# Altium footprint library TerreneitorLib.PcbLib: 8 footprints
Each footprint in its own frame and in the unit in brackets; x right, y up, seen from the top. Pads: shape width x height; smd on the part's side, far side on the other; paste and mask are expansions set on the pad; w line width, h text height; cw(c..) or ccw(c..) is an arc to the next point about the centre after c.
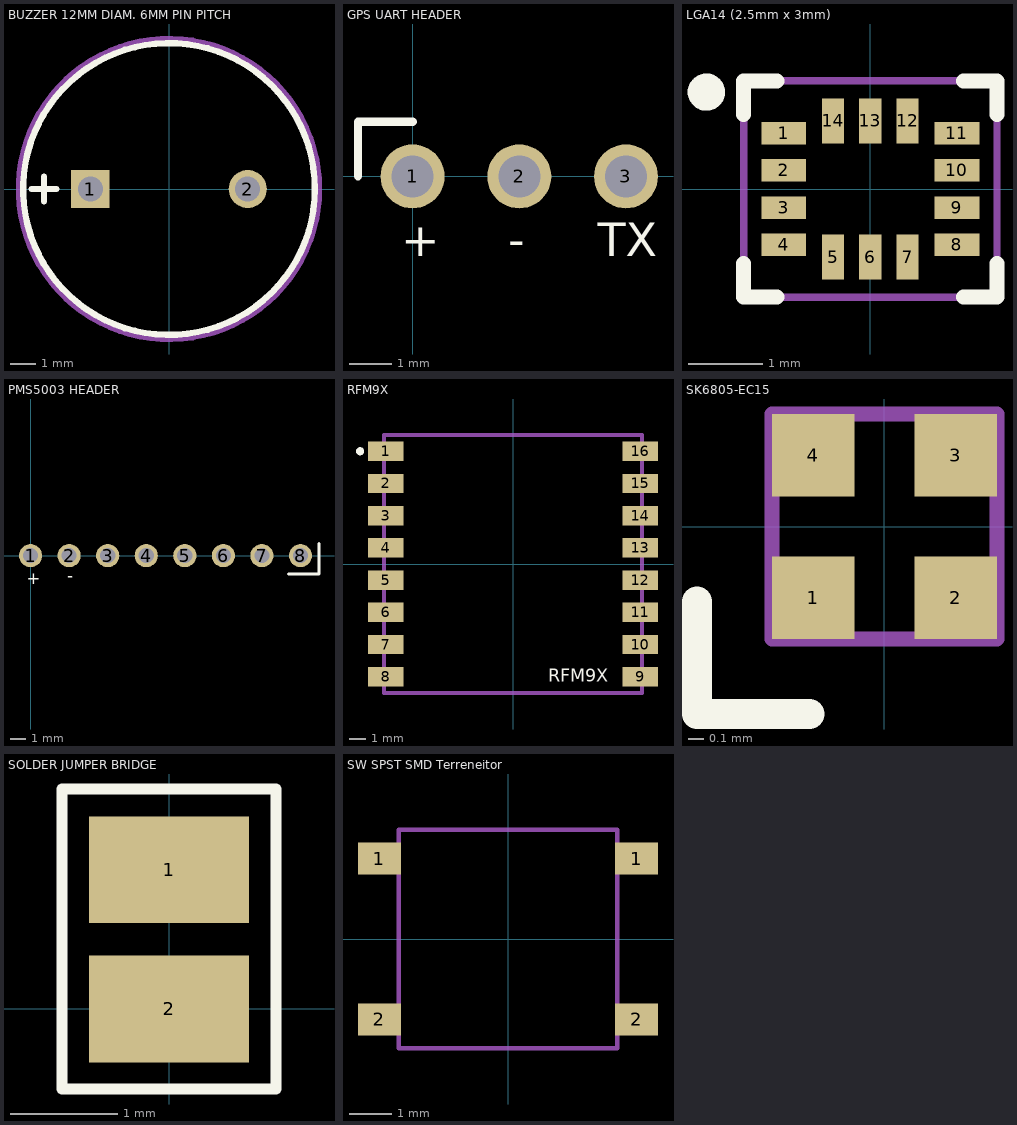
[diagram p0: the footprints below, top view; thin cyan lines are the x and y axes]

## BUZZER 12MM DIAM. 6MM PIN PITCH [mm]
pads (2):
  rect 1.524x1.524 hole 1: 1(-3.15,0)
  round 1.524 hole 1: 2(3.15,0)
Top Overlay:
  circle w0.254: c0,0 r5.836
  lines w0.254: -5.5,0 -4.5,0 ; -5,-0.5 -5,0.5
Mechanical 1:
  circle w0.254: c0,0 r6
3D body "12085_buzzer.step": height 8.2, standoff -3, extent -5.95,-6 6.05,6

## GPS UART HEADER [mil]
pads (3):
  round 60 hole 39.37: 1(0,0) 2(100,0) 3(200,0)
Top Overlay:
  lines w7.87: -51.18,0 -51.18,51.18 0,51.18
  text "TX" at 173.76,-74.8 h31.5
  text "-" at 89.5,-74.8 h31.5
  text "+" at -10.5,-74.8 h31.5
Mechanical 1:
  text "'.Designator'" at -144.28,62.34 h39.37
3D body "PinHeader_1x03_P2.54mm_Vertical.step": height 336.22, standoff -118.11, extent -50,-50 250,50

## LGA14 (2.5mm x 3mm) [mm]
pads (14):
  rect 0.6x0.3 smd mask+0.051: 1(-1.162,0.75) 2(-1.162,0.25) 3(-1.162,-0.25) 4(-1.162,-0.75) 8(1.162,-0.75) 9(1.162,-0.25) 10(1.162,0.25) 11(1.162,0.75)
  rect 0.3x0.6 smd mask+0.051: 5(-0.5,-0.913) 6(0,-0.913) 7(0.5,-0.913) 12(0.5,0.913) 13(0,0.913) 14(-0.5,0.913)
Top Overlay:
  circle w0.25: c-2.2,1.3 r0.125
  lines w0.2: -1.7,-1 -1.7,-1.45 -1.25,-1.45 ; -1.7,1 -1.7,1.45 -1.25,1.45 ; 1.25,-1.45 1.7,-1.45 1.7,-1 ; 1.25,1.45 1.7,1.45 1.7,1
Mechanical 1:
  lines w0.1: -1.7,-1.45 1.7,-1.45 1.7,1.45 -1.7,1.45 -1.7,-1.45
  text "'.Designator'" at -5.665,-0.417 h1
3D body "LGA14-2.5-3-mm.STEP": height 0.97, standoff 0, extent -1.5,-1.25 1.5,1.25

## PMS5003 HEADER [mil]
pads (8):
  round 60 hole 39.37: 1(0,0) 2(100,0) 3(200,0) 4(300,0) 5(400,0) 6(500,0) 7(600,0) 8(700,0)
Top Overlay:
  lines w7.87: 669.29,-47.24 748.03,-47.24 748.03,31.5
  text "-" at 110.5,-43.3 h31.5
  text "+" at -10.5,-74.8 h31.5
Mechanical 1:
  text "'.Designator'" at 131.31,-95.14 h39.37
3D body "PinHeader_1x08_P2.54mm_Vertical.step": height 336.22, standoff -118.11, extent -50,-50 750,50

## RFM9X [mm]
pads (16):
  rect 2.2x1.2 smd: 1(-7.9,7) 2(-7.9,5) 3(-7.9,3) 4(-7.9,1) 5(-7.9,-1) 6(-7.9,-3) 7(-7.9,-5) 8(-7.9,-7) 9(7.9,-7) 10(7.9,-5) 11(7.9,-3) 12(7.9,-1) 13(7.9,1) 14(7.9,3) 15(7.9,5) 16(7.9,7)
Top Overlay:
  circle w0.25: c-9.5,7 r0.125
  text "RFM9X" at 2.2,-7.3 h0.8
Mechanical 1:
  lines w0.254: -8,-8 8,-8 8,8 -8,8 -8,-8
3D body "RFM95 LoRa v15.step": height 2.04, standoff 0, extent -8,-8 8,8

## SK6805-EC15 [mm]
pads (4):
  rect 0.55x0.55 smd: 1(-0.475,-0.475) 2(0.475,-0.475) 3(0.475,0.475) 4(-0.475,0.475)
Top Overlay:
  lines w0.2: -1.25,-0.5 -1.25,-1.25 -0.5,-1.25
Mechanical 1:
  lines w0.1: -0.75,-0.75 -0.75,0.75 0.75,0.75 0.75,-0.75 -0.75,-0.75
3D body "sk6805-1515.stp": height 0.65, standoff 0, extent -0.75,-0.75 0.75,0.75

## SOLDER JUMPER BRIDGE [mm] "Solder Jumper Bridge"
pads (2):
  rect 1.5x1 smd mask+0.07: 1(0,1.3) 2(0,0)
Top Overlay:
  lines w0.1: -1,-0.75 1,-0.75 1,2.055 -1,2.055 -1,0 -1,-0.75

## SW SPST SMD Terreneitor [mm] "SPST SW TS-1187A-B-A-B"
pads (4):
  rect 1x0.75 smd: 1(-3,1.875) 1(3,1.875) 2(-3,-1.875) 2(3,-1.875)
Mechanical 1:
  lines w0.1: -2.55,-2.55 -2.55,2.55 2.55,2.55 2.55,-2.55 -2.55,-2.55
3D body "SW_SPST_TL3342.step": height 1.54, standoff 0, extent -3.2,-2.6 3.2,2.6